# EAGLE library part LTC7000EMSE#PBF (library LTC7000EMSE#PBF)
Gate Drivers Fast 150V Protected High Side NMOS Static Switch Driver Source: Datasheet <https://www.analog.com/media/en/technical-documentation/data-sheets/ltc7000-7000-1.pdf>
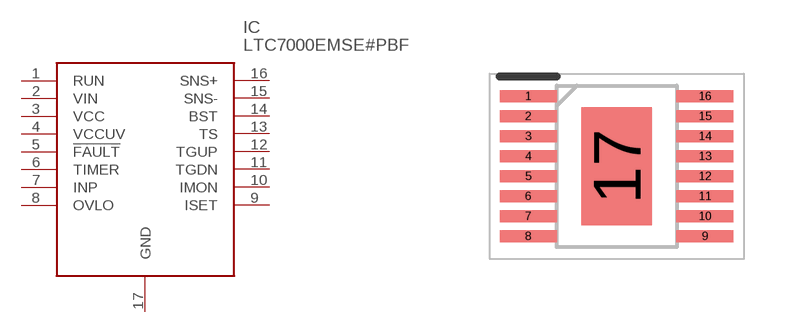
[diagram p0: symbol with the pads of SOP50P490X110-17N; footprint SOP50P490X110-17N]

Designator prefix IC

## LTC7000EMSE#PBF (Description: Gate Drivers Fast 150V Protected High Side NMOS Static Switch Driver; Height: 1.1mm; Manufacturer_Name: Analog Devices; Manufacturer_Part_Number: LTC7000EMSE#PBF; Mouser_Part_Number: 584-LTC7000EMSEPBF; Mouser_Price-Stock: https://www.mouser.co.uk/ProductDetail/Analog-Devices/LTC7000EMSEPBF?qs=BZBei1rCqCABaEvAxqf5Sw%3D%3D)  [SOP50P490X110-17N]
1  RUN
2  VIN
3  VCC
4  VCCUV
5  !FAULT
6  TIMER
7  INP
8  OVLO
9  ISET
10  IMON
11  TGDN
12  TGUP
13  TS
14  BST
15  SNS-
16  SNS+
17  GND

## Footprint SOP50P490X110-17N (pad centres in mm)
16-Lead Plastic MSOP **-
smd 1.425 x 0.3: 1 -2.212,1.75; 2 -2.212,1.25; 3 -2.212,0.75; 4 -2.212,0.25; 5 -2.212,-0.25; 6 -2.212,-0.75; 7 -2.212,-1.25; 8 -2.212,-1.75; 9 2.212,-1.75; 10 2.212,-1.25; 11 2.212,-0.75; 12 2.212,-0.25; 13 2.212,0.25; 14 2.212,0.75; 15 2.212,1.25; 16 2.212,1.75
smd 1.753 x 2.947: 17 0,0